# Altium integrated library Linear Technology PMIC-Switching Reg LTC1174-LTC3901.IntLib: 2647 symbols (part 56 of 310)
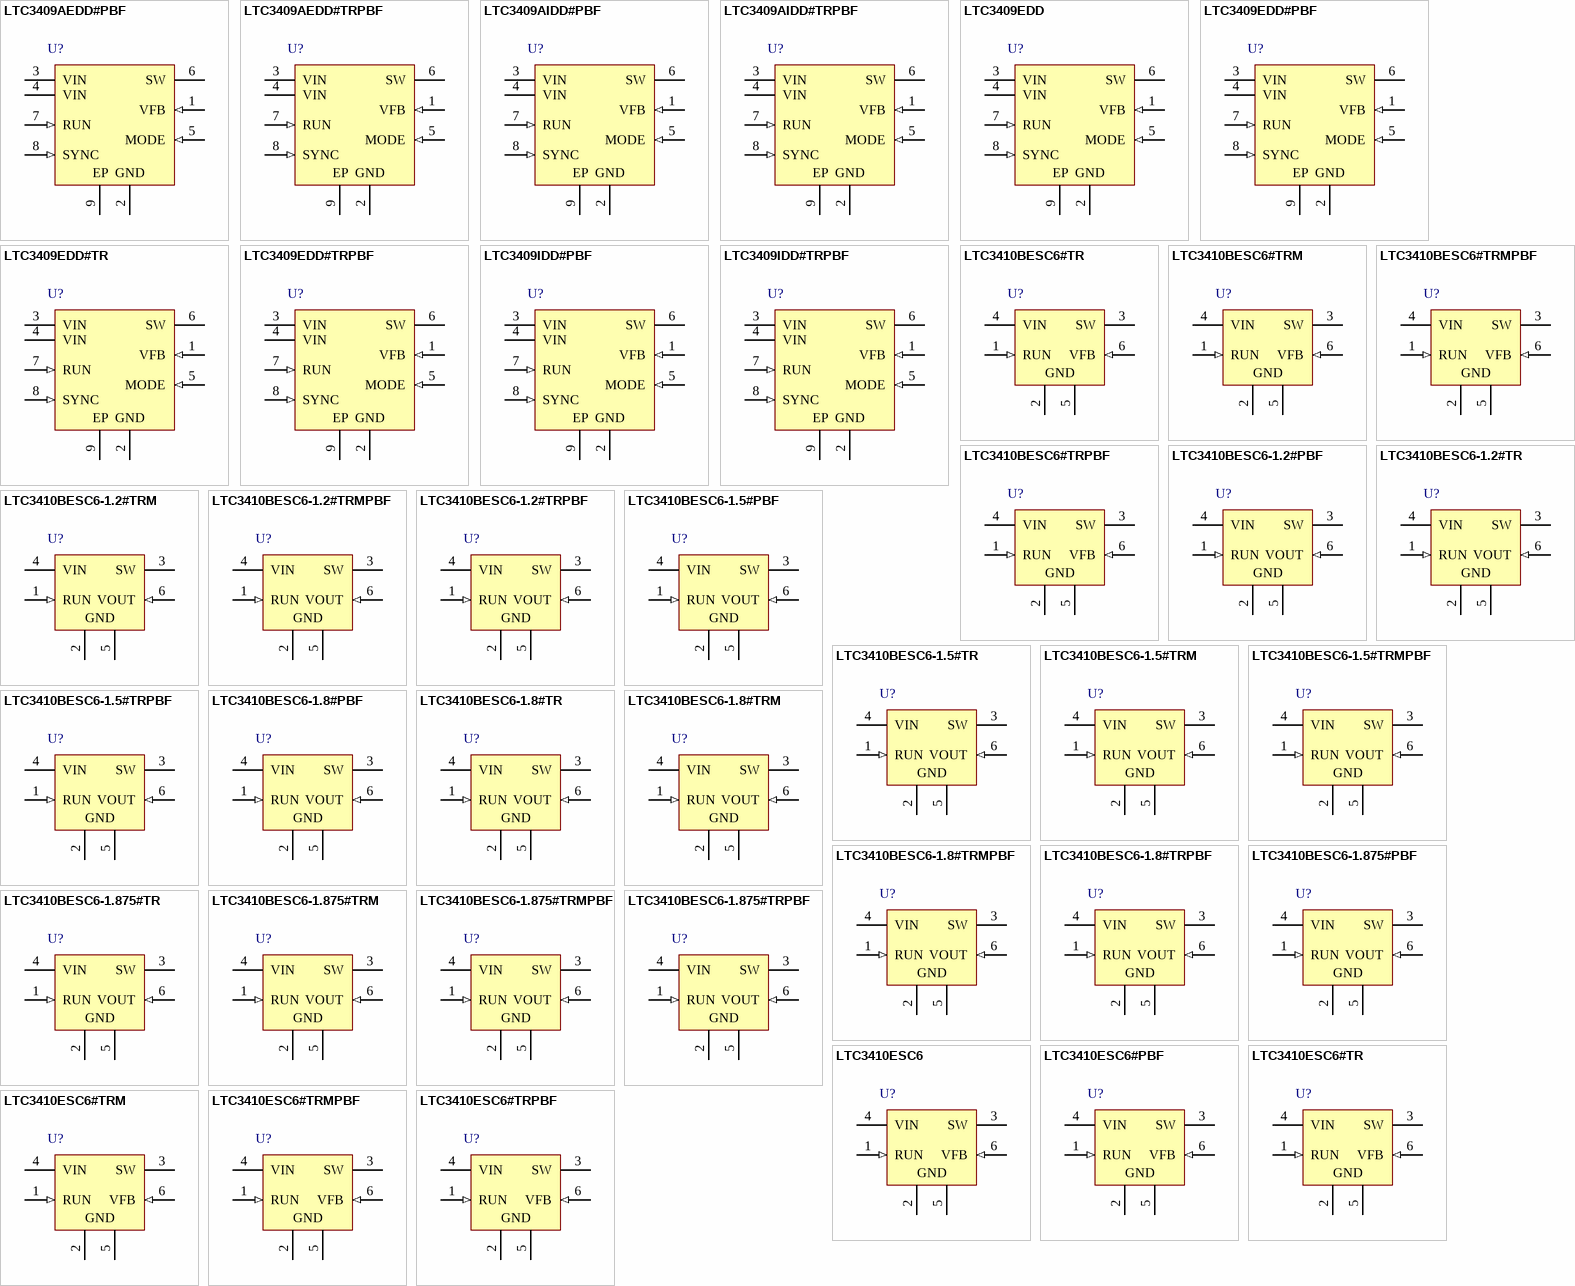
[diagram p248: symbols LTC3409AEDD#PBF to LTC3410ESC6#TRPBF]

## LTC3409AIDD#TRPBF
designator U?
600 mA Low Buck Regulator, 1.6 to 5.5 V Vin, 8-pin SON (DD-8), -40 to 85 degC, Pb-Free, Tape and Reel; Manufacturer: Linear Technology; PartNumber: LTC3409AIDD#TRPBF; Number of Outputs: 1; PackageReference: DD-8; PackageDescription: 8-Pin Plastic DFN, Body 3 x 3 mm, Pitch 0.5 mm; Supplier 1: Digi-Key; Supplier Part Number 1: LTC3409AIDD#TRPBF-ND; RoHS: TRUE; Code_JEDEC: MO-229
footprint LT-DD-8_V (SON, 8-Leads, Body 3x3mm, Pitch 0.5mm, Thermal Pad 1.65x2.38 mm)
pins: 1 VFB (in) "Feedback Pin. Receives the feedback voltage from an external resistive divider across the output.", 2 GND (power) "Ground Pin.", 3 VIN (power) "Main Supply Pins. Must be closely decoupled to GND, Pin 2 and Pin 9, with a 4.7uF or greater ceramic capacitor.", 4 VIN (power) "Main Supply Pins. Must be closely decoupled to GND, Pin 2 and Pin 9, with a 4.7uF or greater ceramic capacitor.", 5 MODE (in) "Mode Select Input. To select pulse skipping mode, force this pin above 1.1V. Forcing this pin below 0.3V selects Burst Mode operation. Do not leave MODE floating.", 6 SW (power) "Switch Node Connection to Inductor. This pin connects to the drains of the internal main and synchronous power MOSFET switches.", 7 RUN (in) "Run Control Input. Forcing this pin above 1.1V enables the part. Forcing this pin below 0.3V shuts down the device. In shutdown, all functions are disabled drawing <1uA supply current. Do not leave RUN floating.", 8 SYNC (in) "External CLK Input/Fixed Switching Frequency Selection. Forcing this pin above 1.1V for greater than 30us selects 2.6MHz switching frequency. Forcing this pin below 0.3V for greater than 30us selects 1.7MHz switching (See Datasheet)", 9 EP (power) "The Exposed Pad is ground. It must be soldered to PCB ground to provide both electrical contact and optimum thermal performance."

## LTC3409EDD
designator U?
600 mA Low Buck Regulator, 1.6 to 5.5 V Vin, 8-pin SON (DD-8), -40 to 85 degC; Manufacturer: Linear Technology; PartNumber: LTC3409EDD; Number of Outputs: 1; PackageReference: DD-8; PackageDescription: 8-Pin Plastic DFN, Body 3 x 3 mm, Pitch 0.5 mm; RoHS: FALSE; Code_JEDEC: MO-229
footprint LT-DD-8_V (SON, 8-Leads, Body 3x3mm, Pitch 0.5mm, Thermal Pad 1.65x2.38 mm)
pins: 1 VFB (in) "Feedback Pin. Receives the feedback voltage from an external resistive divider across the output.", 2 GND (power) "Ground Pin.", 3 VIN (power) "Main Supply Pins. Must be closely decoupled to GND, Pin 2 and Pin 9, with a 4.7uF or greater ceramic capacitor.", 4 VIN (power) "Main Supply Pins. Must be closely decoupled to GND, Pin 2 and Pin 9, with a 4.7uF or greater ceramic capacitor.", 5 MODE (in) "Mode Select Input. To select pulse skipping mode, force this pin above 1.1V. Forcing this pin below 0.3V selects Burst Mode operation. Do not leave MODE floating.", 6 SW (power) "Switch Node Connection to Inductor. This pin connects to the drains of the internal main and synchronous power MOSFET switches.", 7 RUN (in) "Run Control Input. Forcing this pin above 1.1V enables the part. Forcing this pin below 0.3V shuts down the device. In shutdown, all functions are disabled drawing <1uA supply current. Do not leave RUN floating.", 8 SYNC (in) "External CLK Input/Fixed Switching Frequency Selection. Forcing this pin above 1.1V for greater than 30us selects 2.6MHz switching frequency. Forcing this pin below 0.3V for greater than 30us selects 1.7MHz switching (See Datasheet)", 9 EP (power) "The Exposed Pad is ground. It must be soldered to PCB ground to provide both electrical contact and optimum thermal performance."